# Altium footprint library SO8-EP.PcbLib: 1 footprints
Each footprint in its own frame and in the unit in brackets; x right, y up, seen from the top. Pads: shape width x height; smd on the part's side, far side on the other; paste and mask are expansions set on the pad; w line width, h text height; cw(c..) or ccw(c..) is an arc to the next point about the centre after c.
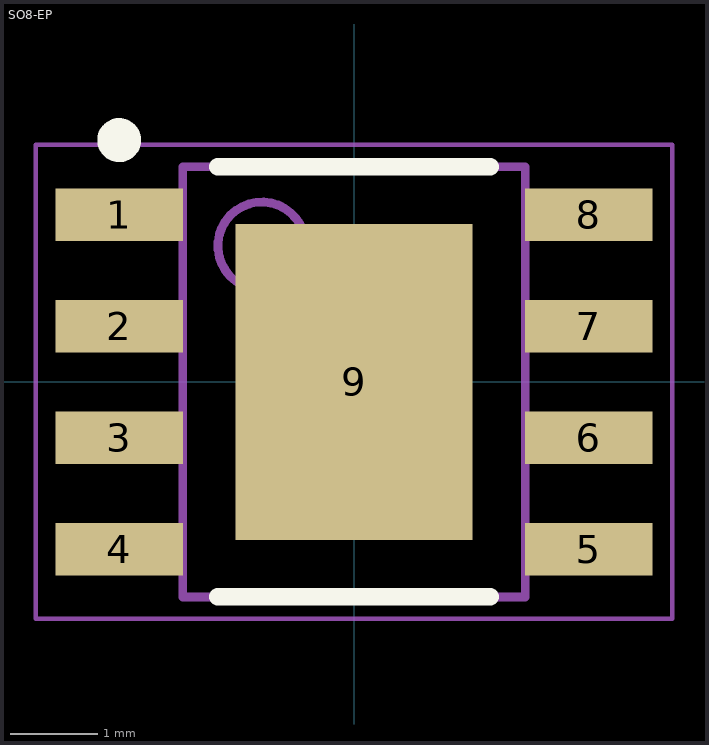
[diagram p0: the footprint, top view; thin cyan lines are the x and y axes]

## SO8-EP [mm] "SOIC, 8-Leads, Body 4.80x3.80mm, Pitch 1.27mm, Thermal Pad 3.60x2.70mm, IPC Medium Density"
height 1.65
pads (9):
  rect 1.45x0.6 smd mask+0.05: 1(-2.675,1.905) 2(-2.675,0.635) 3(-2.675,-0.635) 4(-2.675,-1.905) 5(2.675,-1.905) 6(2.675,-0.635) 7(2.675,0.635) 8(2.675,1.905)
  rect 2.7x3.6 smd mask+0.05: 9(0,0)
Top Overlay:
  circle w0.25: c-2.675,2.755 r0.125
  lines w0.2: -1.55,-2.45 1.55,-2.45 ; -1.55,2.45 1.55,2.45
Top Solder:
  region: -1.35,1.8 -1.35,-1.8 1.35,-1.8 1.35,1.8
  region: 1.95,1.605 1.95,2.205 3.4,2.205 3.4,1.605
  region: 1.95,0.335 1.95,0.935 3.4,0.935 3.4,0.335
  region: 1.95,-0.335 1.95,-0.935 3.4,-0.935 3.4,-0.335
  region: 1.95,-1.605 1.95,-2.205 3.4,-2.205 3.4,-1.605
  region: -3.4,-1.605 -3.4,-2.205 -1.95,-2.205 -1.95,-1.605
  region: -3.4,-0.335 -3.4,-0.935 -1.95,-0.935 -1.95,-0.335
  region: -3.4,0.335 -3.4,0.935 -1.95,0.935 -1.95,0.335
  region: -3.4,1.605 -3.4,2.205 -1.95,2.205 -1.95,1.605
Top Courtyard:
  lines w0.05: -3.625,-2.7 3.625,-2.7 3.625,2.7 -3.625,2.7 -3.625,-2.7
  lines w0.1: -0.5,0 0.5,0 ; 0,-0.5 0,0.5
Top Assembly:
  circle w0.1: c-1.05,1.55 r0.5
  lines w0.1: -1.95,-2.45 1.95,-2.45 1.95,2.45 -1.95,2.45 -1.95,-2.45
3D body "SO-8EP.STP": height 1.55, standoff 0, extent -3.001,-2.451 3.001,2.451